# EAGLE library part TPS62827ADMQR (library TPS62827ADMQR)
Step Down DC DC Converter Source: Datasheet
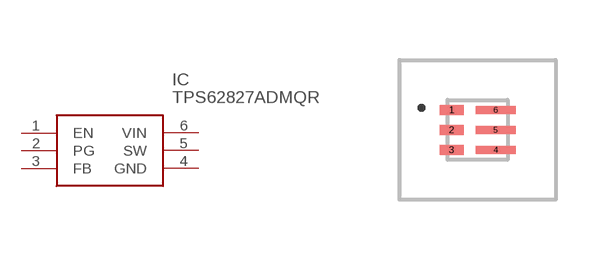
[diagram p0: symbol with the pads of TPS62827ADMQR; footprint TPS62827ADMQR]

Designator prefix IC

## TPS62827ADMQR (Description: Step Down DC DC Converter; Height: 1mm; Manufacturer_Name: Texas Instruments; Manufacturer_Part_Number: TPS62827ADMQR; Mouser_Part_Number: 595-TPS62827ADMQR; Mouser_Price-Stock: https://www.mouser.co.uk/ProductDetail/Texas-Instruments/TPS62827ADMQR?qs=DRkmTr78QATCWGi3%2FWmmPQ%3D%3D)  [TPS62827ADMQR]
1  EN
2  PG
3  FB
4  GND
5  SW
6  VIN

## Footprint TPS62827ADMQR (pad centres in mm)
DMQ0006A_2
smd 0.6 x 0.25: 1 -0.65,0.5; 2 -0.65,0; 3 -0.65,-0.5
smd 1 x 0.2: 4 0.45,-0.5; 5 0.45,0; 6 0.45,0.5